# EAGLE library part VENUSGPS (library CalPolyUCV)
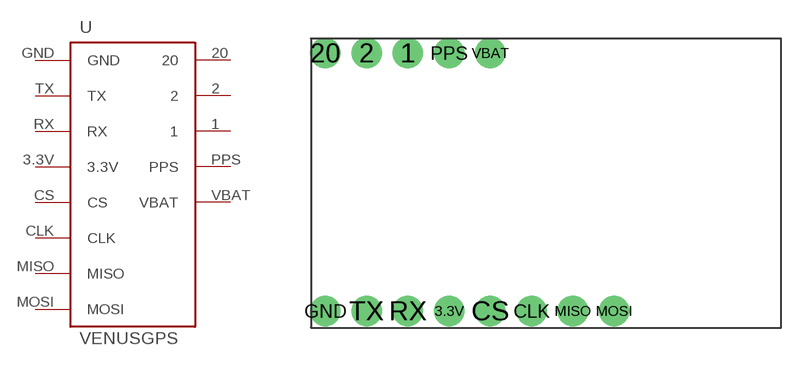
[diagram p2: symbol with the pads of VENUSGPS; footprint VENUSGPS]

Designator prefix -

## VENUSGPS  [VENUSGPS]
1  1
2  2
3.3V  3.3V
20  20
CLK  CLK
CS  CS
GND  GND
MISO  MISO
MOSI  MOSI
PPS  PPS
RX  RX
TX  TX
VBAT  VBAT

## Footprint VENUSGPS (pad centres in mm)
drill 1.016 pad 1.88 round: 1 -8.255,7.62; 2 -10.795,7.62; 3.3V -5.715,-8.255; 20 -13.335,7.62; CLK -0.635,-8.255; CS -3.175,-8.255; GND -13.335,-8.255; MISO 1.905,-8.255; MOSI 4.445,-8.255; PPS -5.715,7.62; RX -8.255,-8.255; TX -10.795,-8.255; VBAT -3.175,7.62